# EAGLE library part PCM1808PW (library edrtech_lib)
99dB SNR Stereo ADC With Single-Ended Inputs 14-TSSOP -40 to 85 Check availability <https://pricing.snapeda.com/parts/PCM1808PW/Texas%20Instruments/view-part?ref=eda>
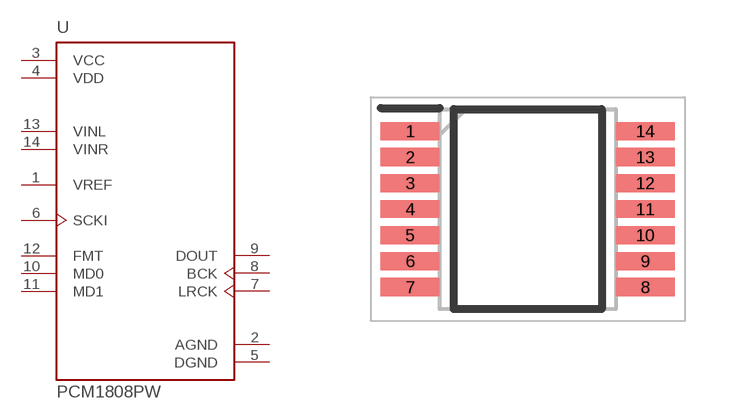
[diagram p15: symbol with the pads of SOP65P640X120-14N; footprint SOP65P640X120-14N]

Designator prefix U

## PCM1808PW (AVAILABILITY: In Stock; DESCRIPTION: 24-bit, 99-dB SNR, 96-kHz stereo ADC with single-ended inputs; MF: Texas Instruments; MP: PCM1808PW; PACKAGE: TSSOP-14 Texas Instruments; PRICE: None; PURCHASE-URL: https://pricing.snapeda.com/search/part/PCM1808PW/?ref=eda)  [SOP65P640X120-14N]
1  VREF  in
2  AGND  pwr
3  VCC  pwr
4  VDD  pwr
5  DGND  pwr
6  SCKI  in
7  LRCK
8  BCK
9  DOUT  out
10  MD0  in
11  MD1  in
12  FMT  in
13  VINL  in
14  VINR  in

## Footprint SOP65P640X120-14N (pad centres in mm)
PW (R-PDSO-G14)
smd 1.475 x 0.45: 1 -2.938,1.95; 2 -2.938,1.3; 3 -2.938,0.65; 4 -2.938,0; 5 -2.938,-0.65; 6 -2.938,-1.3; 7 -2.938,-1.95; 8 2.938,-1.95; 9 2.938,-1.3; 10 2.938,-0.65; 11 2.938,0; 12 2.938,0.65; 13 2.938,1.3; 14 2.938,1.95